# EAGLE library part NUCLEO_F411RE_MORPHO (library stm32_nucleo_shield)
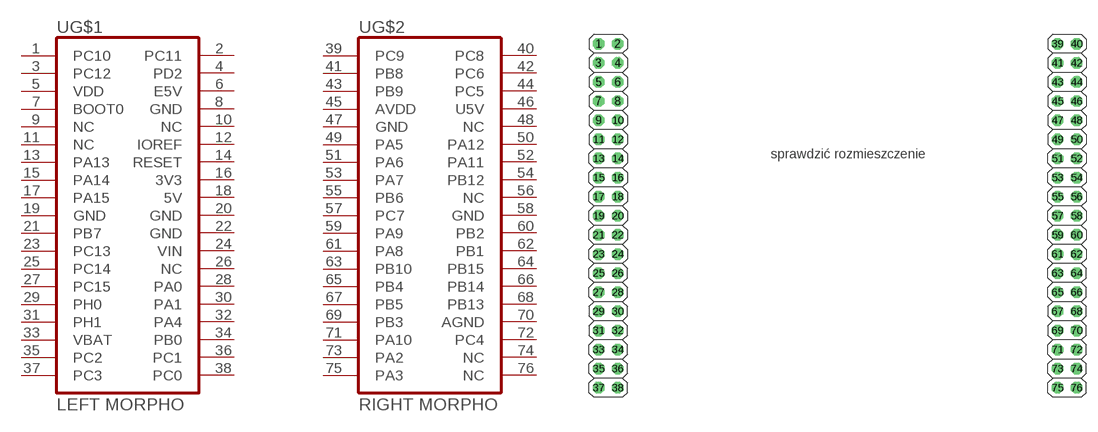
[diagram p1: symbol with the pads of MORPHO_HEADERS; footprint MORPHO_HEADERS]

Designator prefix -; gates G$1=F411RE_MORPHO_LEFT G$2=F411RE_MORPHO_RIGHT

## NUCLEO_F411RE_MORPHO  [MORPHO_HEADERS]
1  G$1:PC10
2  G$1:PC11
3  G$1:PC12
4  G$1:PD2
5  G$1:VDD  pwr
6  G$1:E5V
7  G$1:BOOT0  in
8  G$1:GND  pwr
9  G$1:NC  nc
10  G$1:NC  nc
11  G$1:NC  nc
12  G$1:IOREF
13  G$1:PA13
14  G$1:RESET
15  G$1:PA14
16  G$1:3V3  pwr
17  G$1:PA15
18  G$1:5V  pwr
19  G$1:GND  pwr
20  G$1:GND  pwr
21  G$1:PB7
22  G$1:GND  pwr
23  G$1:PC13
24  G$1:VIN  pwr
25  G$1:PC14
26  G$1:NC  nc
27  G$1:PC15
28  G$1:PA0
29  G$1:PH0
30  G$1:PA1
31  G$1:PH1
32  G$1:PA4
33  G$1:VBAT  pwr
34  G$1:PB0
35  G$1:PC2
36  G$1:PC1
37  G$1:PC3
38  G$1:PC0
39  G$2:PC9
40  G$2:PC8
41  G$2:PB8
42  G$2:PC6
43  G$2:PB9
44  G$2:PC5
45  G$2:AVDD  pwr
46  G$2:U5V  pwr
47  G$2:GND  pwr
48  G$2:NC  nc
49  G$2:PA5
50  G$2:PA12
51  G$2:PA6
52  G$2:PA11
53  G$2:PA7
54  G$2:PB12
55  G$2:PB6
56  G$2:NC  nc
57  G$2:PC7
58  G$2:GND  pwr
59  G$2:PA9
60  G$2:PB2
61  G$2:PA8
62  G$2:PB1
63  G$2:PB10
64  G$2:PB15
65  G$2:PB4
66  G$2:PB14
67  G$2:PB5
68  G$2:PB13
69  G$2:PB3
70  G$2:AGND  pwr
71  G$2:PA10
72  G$2:PC4
73  G$2:PA2
74  G$2:NC  nc
75  G$2:PA3
76  G$2:NC  nc

## Footprint MORPHO_HEADERS (pad centres in mm)
drill 1.016 octagon: 1 -31.75,22.86; 2 -29.21,22.86; 3 -31.75,20.32; 4 -29.21,20.32; 5 -31.75,17.78; 6 -29.21,17.78; 7 -31.75,15.24; 8 -29.21,15.24; 9 -31.75,12.7; 10 -29.21,12.7; 11 -31.75,10.16; 12 -29.21,10.16; 13 -31.75,7.62; 14 -29.21,7.62; 15 -31.75,5.08; 16 -29.21,5.08; 17 -31.75,2.54; 18 -29.21,2.54; 19 -31.75,0; 20 -29.21,0; 21 -31.75,-2.54; 22 -29.21,-2.54; 23 -31.75,-5.08; 24 -29.21,-5.08; 25 -31.75,-7.62; 26 -29.21,-7.62; 27 -31.75,-10.16; 28 -29.21,-10.16; 29 -31.75,-12.7; 30 -29.21,-12.7; 31 -31.75,-15.24; 32 -29.21,-15.24; 33 -31.75,-17.78; 34 -29.21,-17.78; 35 -31.75,-20.32; 36 -29.21,-20.32; 37 -31.75,-22.86; 38 -29.21,-22.86; 39 29.21,22.86; 40 31.75,22.86; 41 29.21,20.32; 42 31.75,20.32; 43 29.21,17.78; 44 31.75,17.78; 45 29.21,15.24; 46 31.75,15.24; 47 29.21,12.7; 48 31.75,12.7; 49 29.21,10.16; 50 31.75,10.16; 51 29.21,7.62; 52 31.75,7.62; 53 29.21,5.08; 54 31.75,5.08; 55 29.21,2.54; 56 31.75,2.54; 57 29.21,0; 58 31.75,0; 59 29.21,-2.54; 60 31.75,-2.54; 61 29.21,-5.08; 62 31.75,-5.08; 63 29.21,-7.62; 64 31.75,-7.62; 65 29.21,-10.16; 66 31.75,-10.16; 67 29.21,-12.7; 68 31.75,-12.7; 69 29.21,-15.24; 70 31.75,-15.24; 71 29.21,-17.78; 72 31.75,-17.78; 73 29.21,-20.32; 74 31.75,-20.32; 75 29.21,-22.86; 76 31.75,-22.86